# Altium schematic symbol library Connectors.SchLib: 9 symbols
Pins are listed as number, name and electrical type; pins without a type are passive.

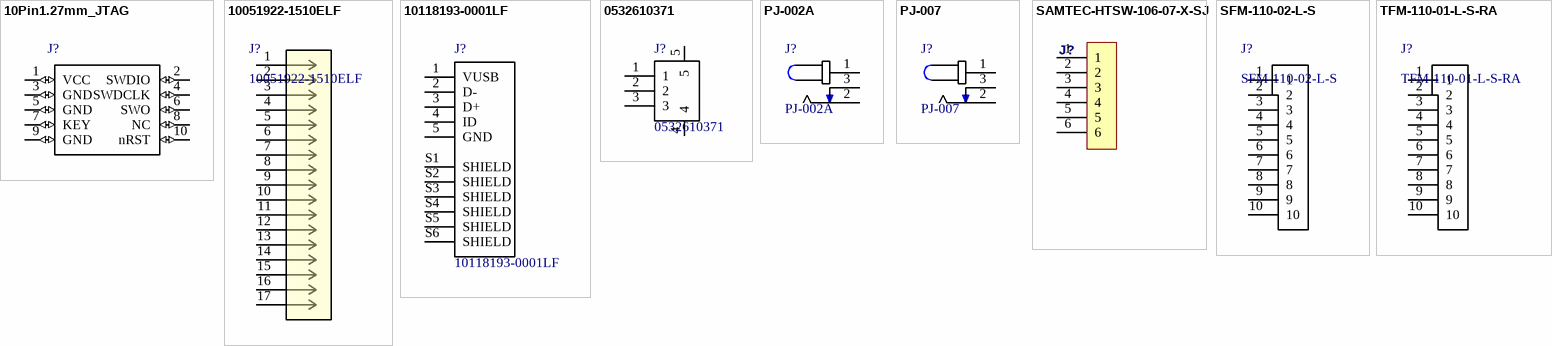
[diagram p0: symbols 10Pin1.27mm_JTAG to TFM-110-01-L-S-RA]

## 10Pin1.27mm_JTAG
designator J?
Manufacturer 1: Samtec; Manufacturer Part Number 1: SHF-105-01-L-D-TH; ComponentLink1URL: https://datasheet.ciiva.com/9475/eshf-9475367.pdf; ComponentLink1Description: https://datasheet.ciiva.com/9475/eshf-9475367.pdf; ComponentLink2URL: https://datasheet.ciiva.com/22665/shf-22665879.pdf; ComponentLink2Description: https://datasheet.ciiva.com/22665/shf-22665879.pdf; ComponentLink3URL: https://datasheet.ciiva.com/6091/shf-6091993.pdf; ComponentLink3Description: https://datasheet.ciiva.com/6091/shf-6091993.pdf; ComponentLink4URL: https://datasheet.ciiva.com/16710/eshf-16710363.pdf; ComponentLink4Description: https://datasheet.ciiva.com/16710/eshf-16710363.pdf; ComponentLink5URL: https://datasheet.ciiva.com/23730/shf-1xx-01-x-d-xx-xx-mkt-23730878.pdf; ComponentLink5Description: https://datasheet.ciiva.com/23730/shf-1xx-01-x-d-xx-xx-mkt-23730878.pdf; Supplier 1: Digikey; Supplier Part Number 1: SAM10711-ND
footprint 10Pin1.27mm
pins: 1 VCC (io), 2 SWDIO (io), 3 GND (io), 4 SWDCLK (io), 5 GND (io), 6 SWO (io), 7 KEY (io), 8 NC (io), 9 GND (io), 10 nRST (io)

## 10051922-1510ELF
designator J?
No Description Available; Manufacturer 1: Amphenol; Manufacturer Part Number 1: 10051922-1510ELF; Supplier 1: Digikey; Supplier Part Number 1: 609-1238-1-ND
footprint CON15_1X15_DRB_5
pins: 1, 2, 3, 4, 5, 6, 7, 8, 9, 10, 11, 12, 13, 14, 15, 16, 17

## 10118193-0001LF
designator J?
Conn Micro USB Type B RCP 5 POS 0.65mm Solder RA SMD 5 Terminal 1 Port T/R; Manufacturer 1: Amphenol ICC; Supplier 2: Future Electronics; Supplier Part Number 1: 609-4616-1-ND; Package: None; Manufacturer Part Number 1: 10118193-0001LF; Supplier 1: Digikey; Supplier Part Number 2: 10118193-0001LF
footprint FCI_10118193-0001LF_10118193-0001LF(Primary)
pins: 1 VUSB, 2 D-, 3 D+, 4 ID, 5 GND, S1 SHIELD, S2 SHIELD, S3 SHIELD, S4 SHIELD, S5 SHIELD, S6 SHIELD

## 0532610371
designator J?
1.25mm _.049_ Pitch PicoBlade Header, Surface Mount, Right Angle, Lead-free, 3 Circuits; Manufacturer 1: Molex, LLC; Supplier Part Number 1: WM7621CT-ND; Manufacturer Part Number 1: 0532610371; Supplier 1: Digikey
footprint MOLEX_0532610371
pins: 1, 2, 3, 4, 5

## PJ-002A
designator J?
2.0 mm Center Pin, 2.5 A, Right Angle, Through Hole, Dc Power Jack Connector; MF: CUI Inc.; MP: PJ-002A; Digi-Key_Part_Number: CP-002A-ND; SnapEDA_Link: https://www.snapeda.com/parts/PJ-002A/CUI%20Inc./view-part/?ref=snap; Package: None; Digi-Key_Purchase_URL: https://www.digikey.com/product-detail/en/cui-inc/PJ-002A/CP-002A-ND/96962?utm_source=snapeda&utm_medium=aggregator&utm_campaign=symbol; CUI_purchase_URL: https://www.cui.com/product/interconnect/dc-power-connectors/jacks/2.0-mm-center-pin/pj-002a?utm_source=snapeda.com&utm_medium=referral&utm_campaign=snapedaBOM; Value: *
footprint CUI_PJ-002A
pins: 1, 2, 3

## PJ-007
designator J?
Power Barrel Connector Jack 1.35mm ID (0.053"), 3.50mm OD (0.138") Through Hole, Right Angle; Manufacturer 1: CUI Inc.; Manufacturer Part Number 1: PJ-007; Supplier Part Number 1: CP-002A-ND; Supplier 1: Digikey
footprint CUI_PJ-007
pins: 1, 2, 3

## SAMTEC-HTSW-106-07-X-SJ
designator J?
6 pin 2.54mm pitch header
footprint SAMTEC-HTSW-106-07-X-S
pins: 1, 2, 3, 4, 5, 6

## SFM-110-02-L-S
designator J?
footprint SFM-110-02-L-S
pins: 1, 2, 3, 4, 5, 6, 7, 8, 9, 10

## TFM-110-01-L-S-RA
designator J?
footprint TFM-110-01-L-S-RA
pins: 1, 2, 3, 4, 5, 6, 7, 8, 9, 10